# EAGLE library part TA7280P (library Audio-Power-amlifier V.2.0)
Toshiba 5,8 DUAL AUDIO POWER AMPLIEFIER
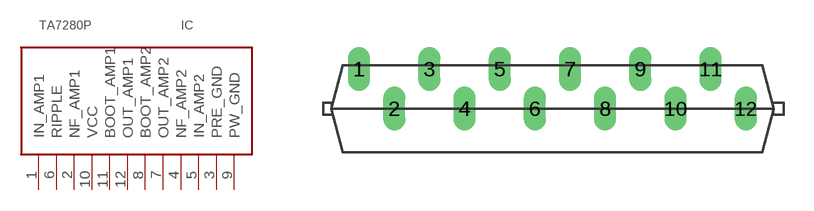
[diagram p119: symbol with the pads of HZIP12-P-1,78B; footprint HZIP12-P-1,78B]

Designator prefix IC

## TA7280P  [HZIP12-P-1,78B]
1  IN_AMP1
2  NF_AMP1
3  PRE_GND
4  NF_AMP2
5  IN_AMP2
6  RIPPLE
7  OUT_AMP2
8  BOOT_AMP2
9  PW_GND
10  VCC
11  BOOT_AMP1
12  OUT_AMP1

## Footprint HZIP12-P-1,78B (pad centres in mm)
drill 0.6 pad 1.016 long: 1 -9.779,2; 2 -8.001,0; 3 -6.223,2; 4 -4.445,0; 5 -2.667,2; 6 -0.889,0; 7 0.889,2; 8 2.667,0; 9 4.445,2; 10 6.223,0; 11 8.001,2; 12 9.779,0